# Altium footprint library 243-336_MP_Manette_ETU.PcbLib: 23 footprints (part 1 of 2)
Each footprint in its own frame and in the unit in brackets; x right, y up, seen from the top. Pads: shape width x height; smd on the part's side, far side on the other; paste and mask are expansions set on the pad; w line width, h text height; cw(c..) or ccw(c..) is an arc to the next point about the centre after c.
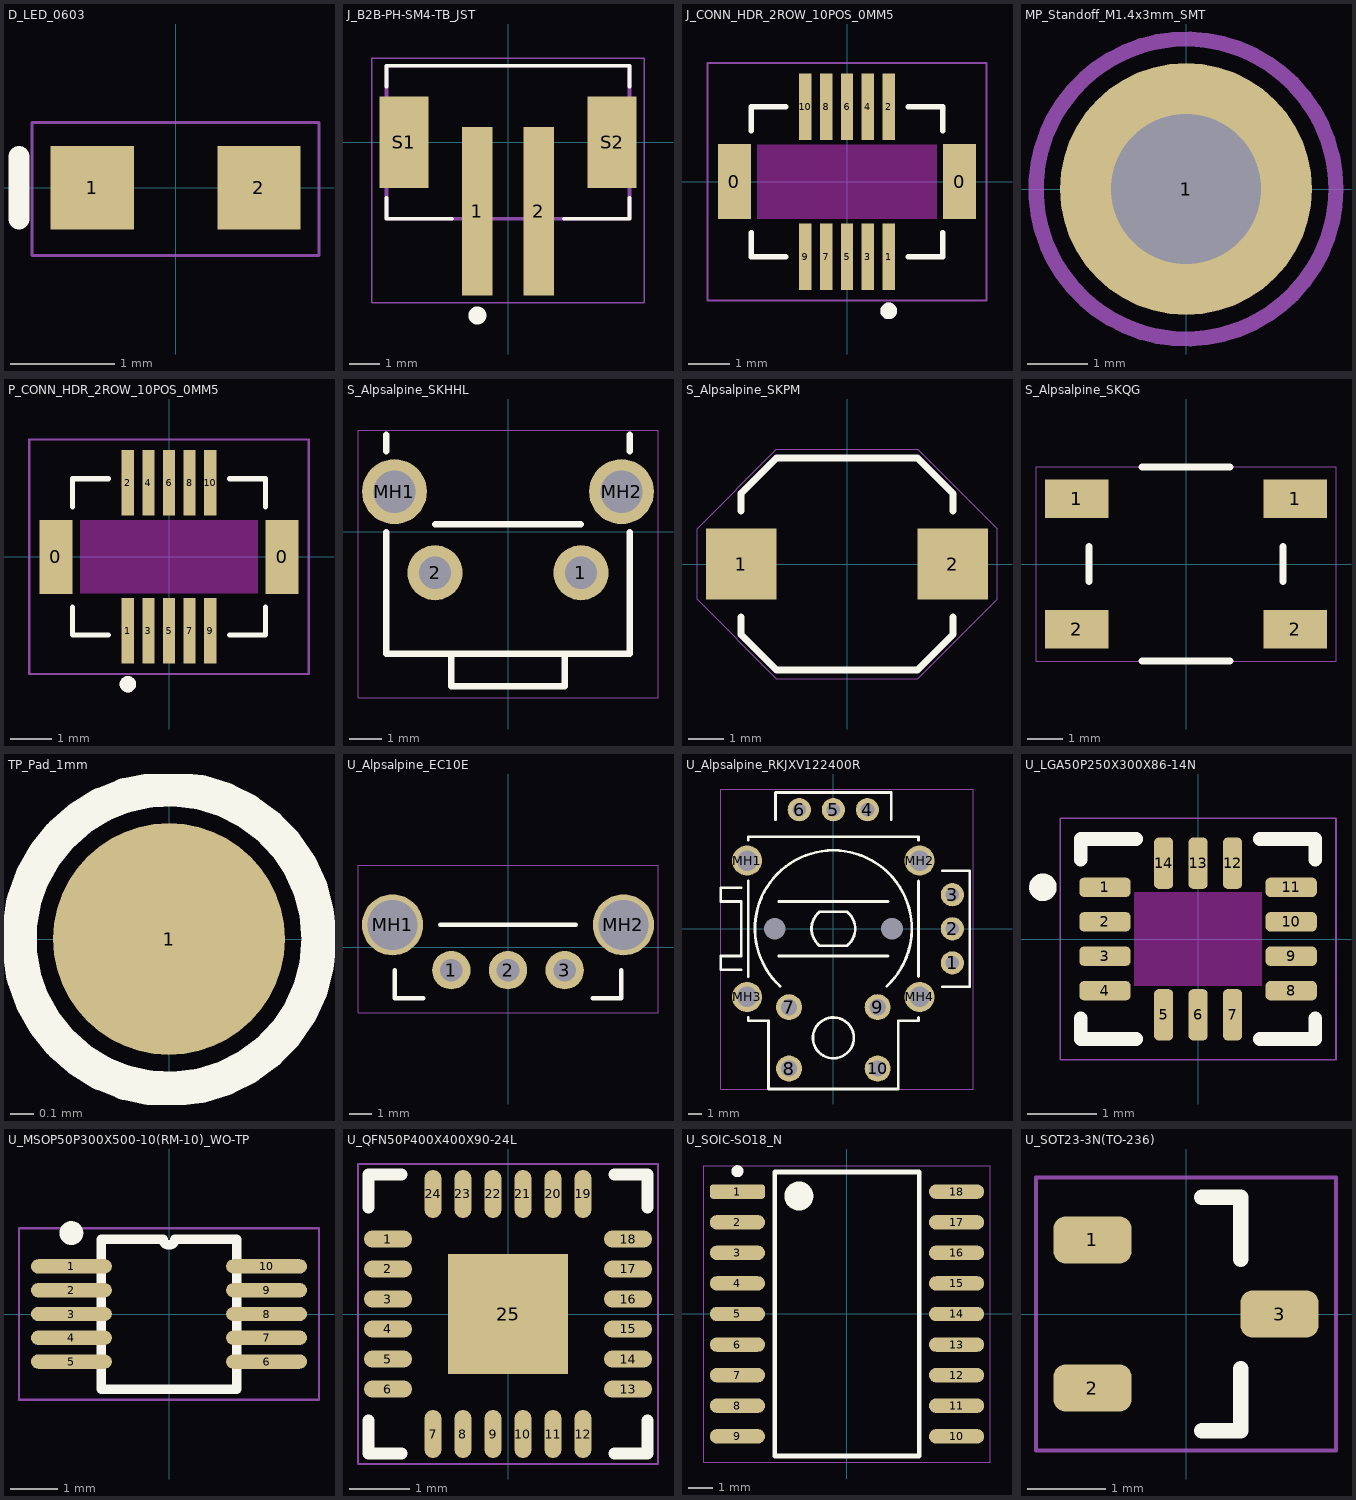
[diagram p0: the footprints below, top view; thin cyan lines are the x and y axes]

## D_LED_0603 [mm] "Chip LED, 2-Leads, Body 1.6x0.8mm, IPC Medium Density"
height 0.68
pads (2):
  rect 0.8x0.8 smd: 1(-0.8,0) 2(0.8,0)
Top Overlay:
  lines w0.2: -1.5,-0.3 -1.5,0.3
Top Courtyard:
  lines w0.025: -1.375,-0.65 1.375,-0.65 1.375,0.625 -1.375,0.625 -1.375,-0.65
Top Designator:
  text ".Designator" at -0.628,-0.339 h1.5
3D body "WL-SMCW_0603_LED.stp": height 0.7, standoff 0, extent -0.8,-0.4 0.8,0.4

## J_B2B-PH-SM4-TB_JST [mm] "CONN HEADER SMD 2POS 2MM STRAIGHT"
height 6.6
pads (4):
  rect 1x5.5 smd: 1(-1,-2.25) 2(1,-2.25)
  rect 1.6x3 smd: S1(-3.4,0) S2(3.4,0)
Top Overlay:
  circle w0.3: c-1,-5.66 r0.145
  lines w0.127: -3.975,-1.82 -3.975,-2.5 -1.82,-2.5 ; -3.975,1.82 -3.975,2.5 3.975,2.5 3.975,1.82 ; 1.82,-2.5 3.975,-2.5 3.975,-1.82
Top Courtyard:
  lines w0.05: -4.45,-5.25 4.45,-5.25 4.45,2.75 -4.45,2.75 -4.45,-5.25
Top Designator:
  text ".Designator" at -3.364,-0.337 h1.5
Top 3D Body:
  lines w0.127: -3.975,-2.5 3.975,-2.5 3.975,2.5 -3.975,2.5 -3.975,-2.5
3D body "step_temp.STEP": height 6.75, standoff 0, extent -3.975,-4.5 3.975,2.5

## J_CONN_HDR_2ROW_10POS_0MM5 [mm] "CONN HIROSE DF12NB"
pads (12):
  rect 0.8x1.8 smd: 0(-2.7,0) 0(2.7,0)
  rect 0.3x1.6 smd paste-2 mask+0.05: 1(1,-1.8) 2(1,1.8) 3(0.5,-1.8) 4(0.5,1.8) 5(0,-1.8) 6(0,1.8) 7(-0.5,-1.8) 8(-0.5,1.8) 9(-1,-1.8) 10(-1,1.8)
Top Layer keep-out:
  region: 2.159,-0.889 -2.159,-0.889 -2.159,0.889 2.159,0.889
Top Overlay:
  circle w0.2: c1,-3.1 r0.1
  lines w0.127: -2.3,-1.22 -2.3,-1.8 -1.47,-1.8 ; -2.3,1.22 -2.3,1.8 -1.47,1.8 ; 1.47,-1.8 2.3,-1.8 2.3,-1.22 ; 1.47,1.8 2.3,1.8 2.3,1.22
Top Paste:
  region: -0.86,-2.6 -1.14,-2.6 -1.14,-1.4 -0.86,-1.4
  region: -0.36,-2.6 -0.64,-2.6 -0.64,-1.4 -0.36,-1.4
  region: 1.14,-2.6 0.86,-2.6 0.86,-1.4 1.14,-1.4
  region: 0.64,-2.6 0.36,-2.6 0.36,-1.4 0.64,-1.4
  region: 0.14,-2.6 -0.14,-2.6 -0.14,-1.4 0.14,-1.4
  region: -0.86,1.4 -1.14,1.4 -1.14,2.6 -0.86,2.6
  region: -0.36,1.4 -0.64,1.4 -0.64,2.6 -0.36,2.6
  region: 1.14,1.4 0.86,1.4 0.86,2.6 1.14,2.6
  region: 0.64,1.4 0.36,1.4 0.36,2.6 0.64,2.6
  region: 0.14,1.4 -0.14,1.4 -0.14,2.6 0.14,2.6
Top Courtyard:
  lines w0.05: -3.35,-2.85 3.35,-2.85 3.35,2.85 -3.35,2.85 -3.35,-2.85
Top Designator:
  text ".Designator" at -3.364,-0.337 h1.5
Top 3D Body:
  circle w0.2: c1,-3.1 r0.1
3D body "DF12NB(3.0)-10DS-0.5V(51).STEP": height 2.2, standoff 0, extent -2.8,-2.286 2.8,2.314

## MP_Standoff_M1.4x3mm_SMT [mm] "Spacer SMT 3mm M1.4"
height 5
pads (1):
  round 4.2 hole 2.5 paste-2539.97: 1(0,0)
Top Paste:
  lines w0.8: -1.694,-0.148 cw(c0,0) -1.694,0.148 ; -1.302,-1.093 ccw(c0,0) -1.093,-1.302 ; -1.302,1.093 cw(c0,0) -1.093,1.302 ; -0.148,-1.694 ccw(c0,0) 0.148,-1.694 ; -0.148,1.694 cw(c0,0) 0.148,1.694 ; 1.093,-1.302 ccw(c0,0) 1.302,-1.093 ; 1.093,1.302 cw(c0,0) 1.302,1.093 ; 1.694,-0.148 ccw(c0,0) 1.694,0.148
Top Courtyard:
  circle w0.254: c0,0 r2.5
3D body: height 0, standoff -1.5, extent -1.25,-1.25 1.25,1.25
3D body: height 3, standoff 0, extent -2.1,-2.1 2.1,2.1
3D body: height 3.1, standoff -1.6, extent -0.7,-0.7 0.7,0.7

## P_CONN_HDR_2ROW_10POS_0MM5 [mm] "CONN HIROSE DF12NB"
pads (12):
  rect 0.8x1.8 smd: 0(-2.75,0) 0(2.75,0)
  rect 0.3x1.6 smd paste-2 mask+0.05: 1(-1,-1.8) 2(-1,1.8) 3(-0.5,-1.8) 4(-0.5,1.8) 5(0,-1.8) 6(0,1.8) 7(0.5,-1.8) 8(0.5,1.8) 9(1,-1.8) 10(1,1.8)
Top Layer keep-out:
  region: 2.159,-0.889 -2.159,-0.889 -2.159,0.889 2.159,0.889
Top Overlay:
  circle w0.2: c-1,-3.1 r0.1
  lines w0.127: -2.35,-1.22 -2.35,-1.9 -1.47,-1.9 ; -2.35,1.22 -2.35,1.9 -1.47,1.9 ; 1.47,-1.9 2.35,-1.9 2.35,-1.22 ; 1.47,1.9 2.35,1.9 2.35,1.22
Top Paste:
  region: 0.14,1.4 -0.14,1.4 -0.14,2.6 0.14,2.6
  region: 0.64,1.4 0.36,1.4 0.36,2.6 0.64,2.6
  region: 1.14,1.4 0.86,1.4 0.86,2.6 1.14,2.6
  region: -0.36,1.4 -0.64,1.4 -0.64,2.6 -0.36,2.6
  region: -0.86,1.4 -1.14,1.4 -1.14,2.6 -0.86,2.6
  region: 0.14,-2.6 -0.14,-2.6 -0.14,-1.4 0.14,-1.4
  region: 0.64,-2.6 0.36,-2.6 0.36,-1.4 0.64,-1.4
  region: 1.14,-2.6 0.86,-2.6 0.86,-1.4 1.14,-1.4
  region: -0.36,-2.6 -0.64,-2.6 -0.64,-1.4 -0.36,-1.4
  region: -0.86,-2.6 -1.14,-2.6 -1.14,-1.4 -0.86,-1.4
Top Courtyard:
  lines w0.05: -3.4,-2.85 -3.4,2.85 3.4,2.85 3.4,-2.85 -3.4,-2.85
Top Designator:
  text ".Designator" at -3.364,-0.337 h1.5
Top 3D Body:
  circle w0.2: c-1,-3.1 r0.1
3D body "DF12NB(3.0)-10DP-0.5V(51).STEP": height 2.3, standoff 0, extent -2.8,-2.35 2.8,2.25

## S_Alpsalpine_SKHHL [mm]
pads (4):
  round 1.7 hole 1 paste-2539.97 mask+0: 1(2.25,-1.27) 2(-2.25,-1.27)
  round 2 hole 1.3 paste-2539.97 mask+0: MH1(-3.5,1.23) MH2(3.5,1.23)
Top Overlay:
  lines w0.2: -3.75,-0.02 -3.75,-3.77 3.75,-3.77 3.75,-0.02 ; -3.75,2.48 -3.75,2.98 ; -2.25,0.23 2.25,0.23 ; -1.75,-3.77 -1.75,-4.77 1.75,-4.77 1.75,-3.77 ; 3.75,2.48 3.75,2.98
Top Courtyard:
  lines w0.025: -4.625,-5.125 4.625,-5.125 4.625,3.125 -4.625,3.125 -4.625,-5.125
Top Designator:
  text ".Designator" at -2.489,-0.212 h1.5

## S_Alpsalpine_SKPM [mm]
pads (2):
  rect 2x2 smd mask+0: 1(-3,0) 2(3,0)
Top Overlay:
  lines w0.2: -3,-1.5 -3,-2 -2,-3 2,-3 3,-2 3,-1.5 ; -3,1.5 -3,2 -2,3 2,3 3,2 3,1.5
Top Courtyard:
  lines w0.025: -4.25,-1 -4.25,0 -4.25,1 -2,3.25 2,3.25 4.25,1 4.25,-1 2,-3.25 -2,-3.25 -4.25,-1
Top Designator:
  text ".Designator" at -2.489,-0.212 h1.5
3D body "skpmbhe010.step": height 5, standoff 0, extent -3.3,-2.97 3.3,2.97

## S_Alpsalpine_SKQG [mm]
height 2.65
pads (4):
  rect 1.8x1.1 smd mask+0: 1(-3.1,1.85) 1(3.1,1.85) 2(-3.1,-1.85) 2(3.1,-1.85)
Top Overlay:
  lines w0.2: -2.75,-0.5 -2.75,0.5 ; -1.25,-2.75 1.25,-2.75 ; -1.25,2.75 1.25,2.75 ; 2.75,-0.5 2.75,0.5
Top Courtyard:
  lines w0.025: -4.25,-2.75 4.25,-2.75 4.25,2.75 -4.25,2.75 -4.25,-2.75
Top Designator:
  text ".Designator" at -2.489,-0.212 h1.5
3D body "SKQGAF.STEP": height 1.5, standoff 0, extent -3.2,-2.6 3.2,2.6

## TP_Pad_1mm [mm]
pads (1):
  round 1 smd paste-1 mask+0: 1(0,0)
Top Overlay:
  circle w0.15: c0,0 r0.648

## U_Alpsalpine_EC10E [mm] "Rotary Encoder TH"
pads (5):
  round 1.7 hole 1 paste-2539.97 mask+0: 1(-2.5,-1) 2(0,-1) 3(2.5,-1)
  round 2.7 hole 2.2 paste-2539.97 mask+0: MH1(-5.1,1) MH2(5.1,1)
Top Overlay:
  lines w0.2: -5,-1 -5,-2.25 -3.75,-2.25 ; -3,1 3,1 ; 3.75,-2.25 5,-2.25 5,-1
Top Courtyard:
  lines w0.025: -6.625,-2.875 6.625,-2.875 6.625,3.625 -6.625,3.625 -6.625,-2.875
Top Designator:
  text ".Designator" at -3.239,0.913 h1.5

## U_Alpsalpine_RKJXV122400R [mm] "Thumb Stick TH"
pads (16):
  round 1.7 hole 1 paste-2539.97 mask+0: 1(8.73,-2.5) 2(8.73,0) 3(8.73,2.5) 4(2.5,8.73) 5(0,8.73) 6(-2.5,8.73)
  round 1.9 hole 1.2 paste-2539.97 mask+0: 7(-3.25,-5.75) 8(-3.25,-10.25) 9(3.25,-5.75) 10(3.25,-10.25)
  round 2.2 hole 1.5 paste-2539.97 mask+0: MH1(-6.325,5) MH2(6.325,5) MH3(-6.325,-5) MH4(6.325,-5)
  round 0.5 hole 1.6 unplated paste-2539.97 mask+0: PH1(-4.3,0) PH2(4.3,0)
Top Overlay:
  circle w0.2: c0,-8 r1.5
  lines w0.2: -6.75,-3 -8.25,-3 -8.25,-2 -6.75,-2 -6.75,2 -8.25,2 -8.25,3 -6.75,3 ; -6.25,-6.5 -6.25,-6.75 -4.75,-6.75 -4.75,-11.75 4.75,-11.75 4.75,-6.75 6.25,-6.75 6.25,-6.5 ; -6.25,-3.5 -6.25,3.5 ; -6.25,6.5 -6.25,6.75 6.25,6.75 6.25,6.5 ; -4.25,8 -4.25,10 4.25,10 4.25,8 ; -4,-2 4,-2 ; -4,2 4,2 ; -3.918,-4.208 cw(c0,0) 0,5.75 cw(c0,0) 3.918,-4.208 ; 6.25,-3.5 6.25,3.5 ; 8,-4.25 10,-4.25 10,4.25 8,4.25 ; -1,-1.25 cw(c0,0) -1,1.25 1,1.25 cw(c0,0) 1,-1.25 -1,-1.25
Top Courtyard:
  lines w0.025: -8.25,-11.75 10.25,-11.75 10.25,10.25 -8.25,10.25 -8.25,-11.75
Top Designator:
  text ".Designator" at -3.239,-0.087 h1.5

## U_LGA50P250X300X86-14N [mm]
pads (14):
  rrect50% 0.745x0.28 smd mask+0: 1(-1.35,0.75) 2(-1.35,0.25) 3(-1.35,-0.25) 4(-1.35,-0.75) 8(1.35,-0.75) 9(1.35,-0.25) 10(1.35,0.25) 11(1.35,0.75)
  rrect50% 0.28x0.745 smd mask+0: 5(-0.5,-1.1) 6(0,-1.1) 7(0.5,-1.1) 12(0.5,1.1) 13(0,1.1) 14(-0.5,1.1)
Top Layer keep-out:
  region: -0.925,0.675 0.925,0.675 0.925,-0.675 -0.925,-0.675
Top Overlay:
  circle w0.2: c-2.25,0.75 r0.1
  lines w0.2: -1.7,-1.15 -1.7,-1.45 -0.9,-1.45 ; -1.7,1.15 -1.7,1.45 -0.9,1.45 ; 0.9,-1.45 1.7,-1.45 1.7,-1.15 ; 0.9,1.45 1.7,1.45 1.7,1.15
Top Courtyard:
  lines w0.025: -2,-1.75 2,-1.75 2,1.75 -2,1.75 -2,-1.75
Top Designator:
  text ".Designator" at -3.378,-0.339 h1.5
3D body "User Library-LGA-14L.STEP": height 0.91, standoff 0.04, extent -1.5,-1.25 1.5,1.25

## U_MSOP50P300X500-10(RM-10)_WO-TP [mm] "Shrink Small Outline; 10 Leads; Body Width 3 mm; Pitch 0.5 mm"
height 1.1
pads (10):
  oval 1.7x0.3 smd mask+0.075: 1(-2.05,1) 2(-2.05,0.5) 3(-2.05,0) 4(-2.05,-0.5) 5(-2.05,-1) 6(2.05,-1) 7(2.05,-0.5) 8(2.05,0) 9(2.05,0.5) 10(2.05,1)
Top Overlay:
  circle w0.25: c-2.05,1.7 r0.125
  lines w0.2: -1.425,-1.575 1.425,-1.575 1.425,1.575 0.125,1.575 cw(c0,1.575) -0.125,1.575 -1.425,1.575 -1.425,-1.575
Top Courtyard:
  lines w0.05: -3.15,-1.8 -3.15,1.8 3.15,1.8 3.15,-1.8 -3.15,-1.8
Top Designator:
  text ".Designator" at -0.337,3.364 h1.5
3D body "User Library-MSOP10-1.STEP": height 1.09, standoff 0, extent -2.575,-1.6 2.575,1.6

## U_QFN50P400X400X90-24L [mm]
pads (25):
  rrect100% 0.8x0.28 smd mask+0: 1(-2,1.25) 2(-2,0.75) 3(-2,0.25) 4(-2,-0.25) 5(-2,-0.75) 6(-2,-1.25) 13(2,-1.25) 14(2,-0.75) 15(2,-0.25) 16(2,0.25) 17(2,0.75) 18(2,1.25)
  rrect100% 0.28x0.8 smd mask+0: 7(-1.25,-2) 8(-0.75,-2) 9(-0.25,-2) 10(0.25,-2) 11(0.75,-2) 12(1.25,-2) 19(1.25,2) 20(0.75,2) 21(0.25,2) 22(-0.25,2) 23(-0.75,2) 24(-1.25,2)
  rect 2x2 smd mask+0: 25(0,0)
Top Overlay:
  lines w0.2: -2.325,-1.775 -2.325,-2.325 -1.775,-2.325 ; -2.325,1.775 -2.325,2.325 -1.775,2.325 ; 1.775,-2.325 2.325,-2.325 2.325,-1.775 ; 1.775,2.325 2.325,2.325 2.325,1.775
Top Courtyard:
  lines w0.025: -2.5,-2.5 2.5,-2.5 2.5,2.5 -2.5,2.5 -2.5,-2.5
Top Designator:
  text ".Designator" at -2.489,-0.212 h1.5
3D body "User Library-QFN24 Punch.STEP": height 0.65, standoff -0.02, extent -2,-2 2,2

## U_SOIC-SO18_N [mm]
pads (18):
  rrect50% 2.3x0.6 smd: 1(-4.55,5.08)
  oval 2.3x0.6 smd: 2(-4.55,3.81) 3(-4.55,2.54) 4(-4.55,1.27) 5(-4.55,0) 6(-4.55,-1.27) 7(-4.55,-2.54) 8(-4.55,-3.81) 9(-4.55,-5.08) 10(4.55,-5.08) 11(4.55,-3.81) 12(4.55,-2.54) 13(4.55,-1.27) 14(4.55,0) 15(4.55,1.27) 16(4.55,2.54) 17(4.55,3.81) 18(4.55,5.08)
Top Overlay:
  circle w0.25: c-4.55,5.93 r0.125
  circle w0.6: c-2,4.9 r0.3
  lines w0.2: -3,-5.9 -3,5.9 3,5.9 3,-5.9 -3,-5.9
Top Courtyard:
  lines w0.05: -5.95,-6.15 5.95,-6.15 5.95,6.15 -5.95,6.15 -5.95,-6.15
Top Designator:
  text ".Designator" at -0.337,3.239 h1.5
3D body "6466311P.stp": height 2.61, standoff 0, extent -5.155,-5.807 5.155,5.75

## U_SOT23-3N(TO-236) [mm] "SOT23, 3-Leads, Body 2.9x1.3mm, Pitch 0.95mm, Lead Span 2.5mm, IPC Medium Density"
height 1.1
pads (3):
  rrect50% 1x0.6 smd: 1(-1.2,0.95) 2(-1.2,-0.95) 3(1.2,0)
Top Overlay:
  lines w0.2: 0.2,-1.5 0.7,-1.5 0.7,-0.7 ; 0.2,1.5 0.7,1.5 0.7,0.7
Top Courtyard:
  lines w0.05: -1.925,-1.75 -1.925,1.75 1.925,1.75 1.925,-1.75 -1.925,-1.75
Top Designator:
  text ".Designator" at -3.378,-0.339 h1.5
3D body "SW3dPS-sot-3p290x130ll237h100.STEP": height 1, standoff 0, extent -1.16,-1.45 1.21,1.45